# Altium footprint library PCB - CONNECTOR - USB - YOURCEEAF10.0.PcbLib: 1 footprints
Each footprint in its own frame and in the unit in brackets; x right, y up, seen from the top. Pads: shape width x height; smd on the part's side, far side on the other; paste and mask are expansions set on the pad; w line width, h text height; cw(c..) or ccw(c..) is an arc to the next point about the centre after c.
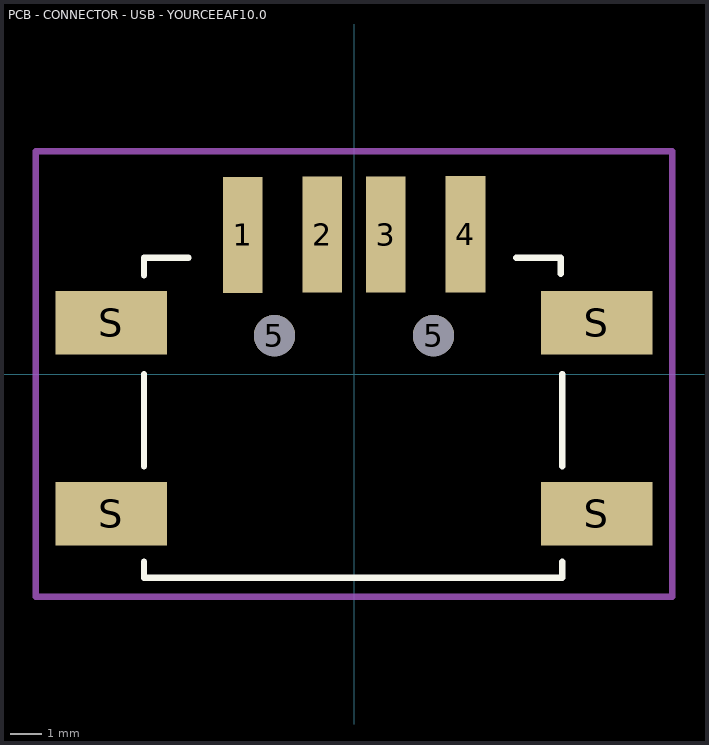
[diagram p0: the footprint, top view; thin cyan lines are the x and y axes]

## PCB - CONNECTOR - USB - YOURCEEAF10.0 [mm] "SMD USB Type A Female jack 4PIN"
height 5.7
pads (10):
  rect 1.25x3.65 smd: 1(-3.5,4.369) 2(-1,4.381) 3(1,4.381) 4(3.5,4.394)
  round 1.3 hole 1.3 unplated: 5(-2.5,1.207) 5(2.5,1.207)
  rect 3.5x2 smd: S(-7.625,-4.394) S(-7.625,1.606) S(7.625,-4.394) S(7.625,1.606)
Top Overlay:
  lines w0.2: -6.6,-5.9 -6.6,-6.4 6.55,-6.4 6.55,-5.9 ; -6.6,-2.9 -6.6,0 ; -6.6,3.1 -6.6,3.65 -5.2,3.65 ; 5.1,3.65 6.5,3.65 6.5,3.15 ; 6.55,-2.9 6.55,0
Top Courtyard:
  lines w0.2: -10,-7 -10,5.5 -10,7 10,7 10,-7 -10,-7
3D body "xb-sua-110m18.stp": height 6.85, standoff -0.71, extent -8,-7 8,4
3D body: height 0.73, standoff -3.43, extent 11.1,0.1 11.1,0.1
3D body: height 0.73, standoff -3.43, extent -4,3.5 -4,3.5